# Altium integrated library Integrated_Library_Da2016.IntLib: 12 symbols
Pins are listed as number, name and electrical type; pins without a type are passive.

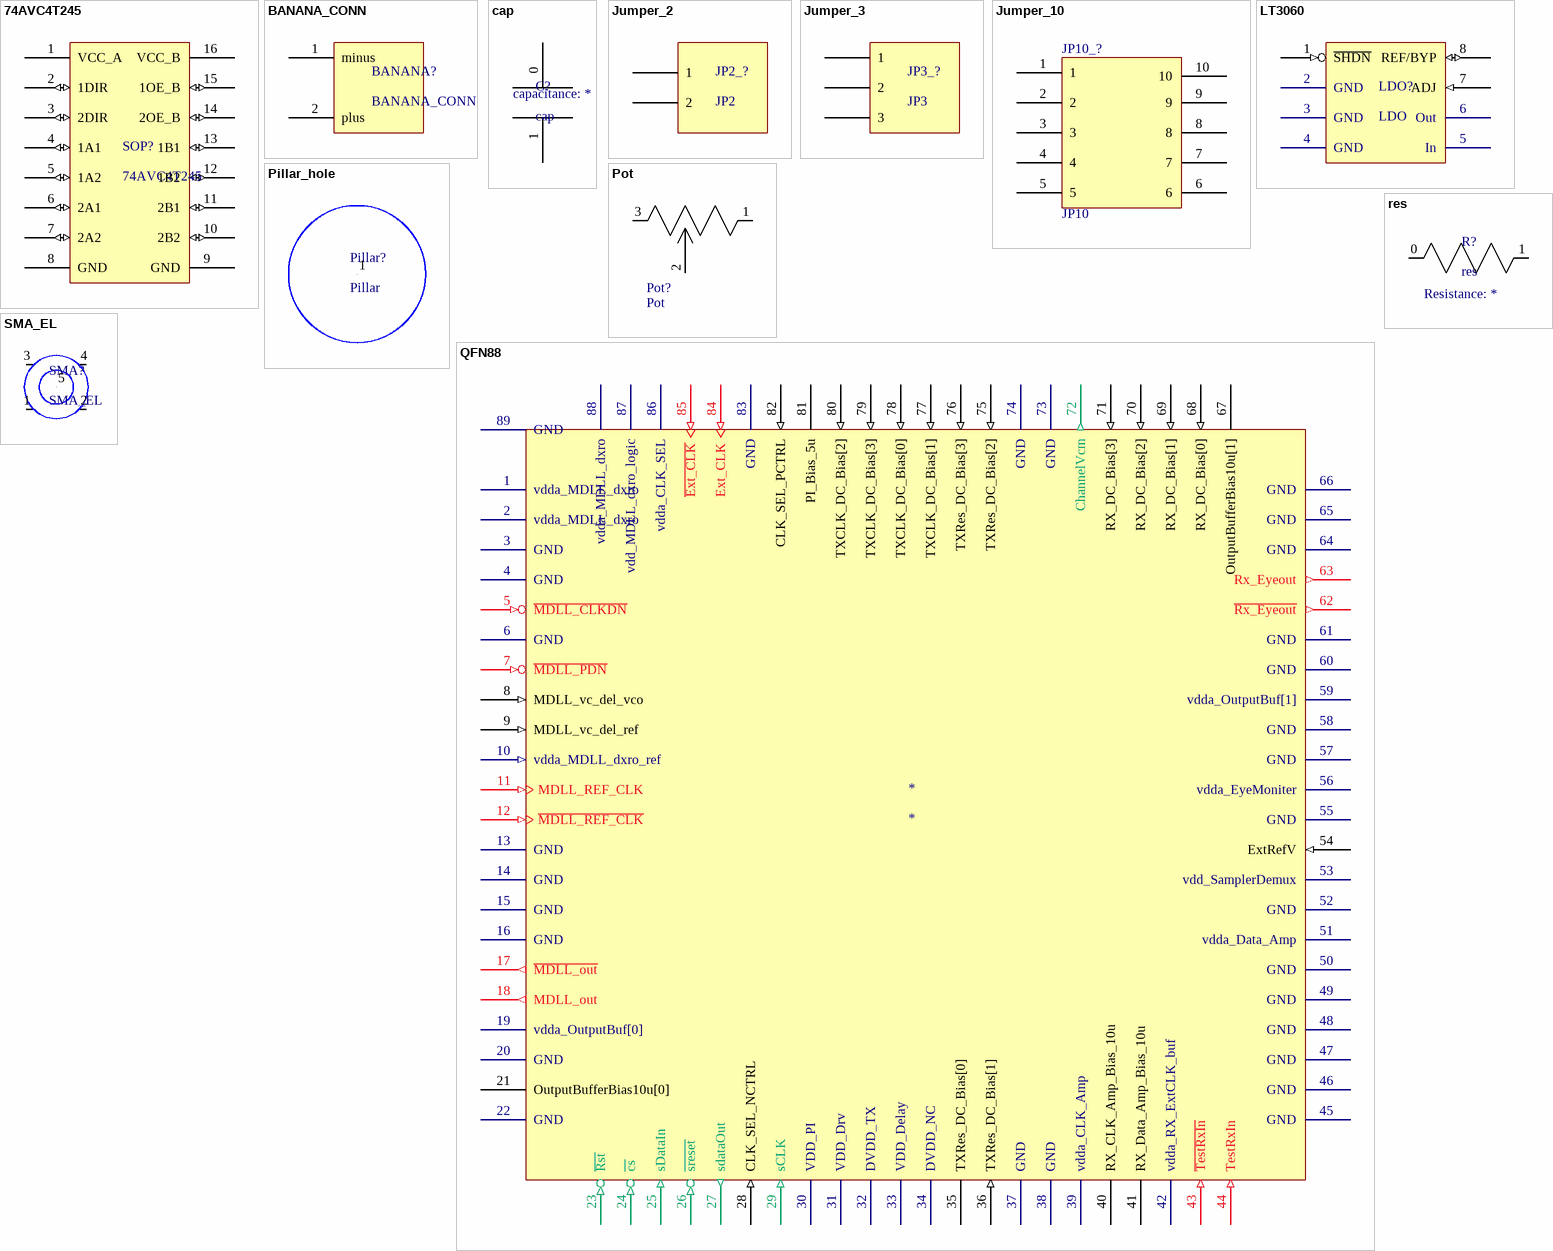
[diagram p0: symbols 74AVC4T245 to SMA_EL]

## 74AVC4T245
designator SOP?
74AVC4T245 Voltage Shifter; Rule: UNIONINDEX{}0[]RULEKIND{}SolderMaskExpansion[]NETSCOPE{}AnyNet[]LAYERKIND{}SameLayer[]NAME{}Schematic Solder Mask Expansion[]EXPANSION{}5mil[]UNIT{}Imperial[]PcbType{}ProtelPcb
footprint 74AVC4T245
pins: 1 VCC_A (power), 2 1DIR (io), 3 2DIR (io), 4 1A1 (io), 5 1A2 (io), 6 2A1 (io), 7 2A2 (io), 8 GND (power), 9 GND (power), 10 2B2 (io), 11 2B1 (io), 12 1B2 (io), 13 1B1 (io), 14 2OE_B (io), 15 1OE_B (io), 16 VCC_B (power)

## BANANA_CONN
designator BANANA?
Rule: UNIONINDEX{}0[]RULEKIND{}SolderMaskExpansion[]NETSCOPE{}AnyNet[]LAYERKIND{}SameLayer[]NAME{}Schematic Solder Mask Expansion[]EXPANSION{}5mil[]UNIT{}Imperial[]PcbType{}ProtelPcb
footprint BANANA_CONN
pins: 1 minus, 2 plus

## cap
designator C?
0603cap; Rule: UNIONINDEX{}0[]RULEKIND{}SolderMaskExpansion[]NETSCOPE{}AnyNet[]LAYERKIND{}SameLayer[]NAME{}Schematic Solder Mask Expansion[]EXPANSION{}5mil[]UNIT{}Imperial[]PcbType{}ProtelPcb; capacitance: *
footprint Capacitor
pins: 0, 1

## Jumper_2
designator JP2_?, comment JP2
Jumper_2; Rule: UNIONINDEX{}0[]RULEKIND{}SolderMaskExpansion[]NETSCOPE{}AnyNet[]LAYERKIND{}SameLayer[]NAME{}Schematic Solder Mask Expansion[]EXPANSION{}5mil[]UNIT{}Imperial[]PcbType{}ProtelPcb
footprint JUMPER2
pins: 1, 2

## Jumper_3
designator JP3_?, comment JP3
Jumper_3p; Rule: UNIONINDEX{}0[]RULEKIND{}SolderMaskExpansion[]NETSCOPE{}AnyNet[]LAYERKIND{}SameLayer[]NAME{}Schematic Solder Mask Expansion[]EXPANSION{}5mil[]UNIT{}Imperial[]PcbType{}ProtelPcb
footprint JUMPER3
pins: 1, 2, 3

## Jumper_10
designator JP10_?, comment JP10
Jumper_10p; Rule: UNIONINDEX{}0[]RULEKIND{}SolderMaskExpansion[]NETSCOPE{}AnyNet[]LAYERKIND{}SameLayer[]NAME{}Schematic Solder Mask Expansion[]EXPANSION{}5mil[]UNIT{}Imperial[]PcbType{}ProtelPcb
footprint JUMPER10
pins: 1, 2, 3, 4, 5, 6, 7, 8, 9, 10

## LT3060
designator LDO?, comment LDO
LT3060 LDO; Rule: UNIONINDEX{}0[]RULEKIND{}SolderMaskExpansion[]NETSCOPE{}AnyNet[]LAYERKIND{}SameLayer[]NAME{}Schematic Solder Mask Expansion[]EXPANSION{}5mil[]UNIT{}Imperial[]PcbType{}ProtelPcb
footprint LT3060
pins: 1 ~{SHDN} (in), 2 GND (power), 3 GND (power), 4 GND (power), 5 In (power), 6 Out (power), 7 ADJ (in), 8 REF/BYP (io)

## Pillar_hole
designator Pillar?, comment Pillar
footprint Pillar_hole
pins: 1

## Pot
designator Pot?
Variable Resistor; Rule: UNIONINDEX{}0[]RULEKIND{}SolderMaskExpansion[]NETSCOPE{}AnyNet[]LAYERKIND{}SameLayer[]NAME{}Schematic Solder Mask Expansion[]EXPANSION{}5mil[]UNIT{}Imperial[]PcbType{}ProtelPcb; Resistance: *
footprint Pot
pins: 1, 2, 3

## QFN88
designator *
QFN88 IC Package
footprint QFN88
pins: 1 vdda_MDLL_dxro (power), 2 vdda_MDLL_dxro (power), 3 GND (power), 4 GND (power), 5 ~{MDLL_CLKDN} (in), 6 GND (power), 7 ~{MDLL_PDN} (in), 8 MDLL_vc_del_vco (in), 9 MDLL_vc_del_ref (in), 10 vdda_MDLL_dxro_ref (in), 11 MDLL_REF_CLK (in), 12 ~{MDLL_REF_CLK} (in), 13 GND (power), 14 GND (power), 15 GND (power), 16 GND (power), 17 ~{MDLL_out} (out), 18 MDLL_out (out), 19 vdda_OutputBuf[0] (power), 20 GND (power), 21 OutputBufferBias10u[0] (power), 22 GND (power), 23 ~{Rst} (in), 24 ~{cs} (in), 25 sDataIn (in), 26 ~{sreset} (in), 27 sdataOut (out), 28 CLK_SEL_NCTRL (in), 29 sCLK (in), 30 VDD_PI (power), 31 VDD_Drv (power), 32 DVDD_TX (power), 33 VDD_Delay (power), 34 DVDD_NC (power), 35 TXRes_DC_Bias[0], 36 TXRes_DC_Bias[1] (in), 37 GND (power), 38 GND (power), 39 vdda_CLK_Amp (power), 40 RX_CLK_Amp_Bias_10u, 41 RX_Data_Amp_Bias_10u (power), 42 vdda_RX_ExtCLK_buf (power), 43 ~{TestRxIn} (in), 44 TestRxIn (in), 45 GND (power), 46 GND (power), 47 GND (power), 48 GND (power), 49 GND, 50 GND (power), 51 vdda_Data_Amp (power), 52 GND (power), 53 vdd_SamplerDemux (power), 54 ExtRefV (in), 55 GND (power), 56 vdda_EyeMoniter (power), 57 GND (power), 58 GND (power), 59 vdda_OutputBuf[1] (power), 60 GND (power), 61 GND (power), 62 ~{Rx_Eyeout} (out), 63 Rx_Eyeout (out), 64 GND (power), 65 GND (power), 66 GND (power), 67 OutputBufferBias10u[1] (power), 68 RX_DC_Bias[0] (in), 69 RX_DC_Bias[1] (in), 70 RX_DC_Bias[2] (in), 71 RX_DC_Bias[3] (in), 72 ChannelVcm (out), 73 GND (power), 74 GND (power), 75 TXRes_DC_Bias[2] (in), 76 TXRes_DC_Bias[3] (in), 77 TXCLK_DC_Bias[1] (in), 78 TXCLK_DC_Bias[0] (in), 79 TXCLK_DC_Bias[3] (in), 80 TXCLK_DC_Bias[2] (in), 81 PI_Bias_5u (power), 82 CLK_SEL_PCTRL (in), 83 GND, 84 Ext_CLK (in), 85 ~{Ext_CLK} (in), 86 vdda_CLK_SEL (power), 87 vdd_MDLL_dxro_logic (power), 88 vdda_MDLL_dxro (power), 89 GND (power)

## res
designator R?
0603Res; Rule: UNIONINDEX{}0[]RULEKIND{}SolderMaskExpansion[]NETSCOPE{}AnyNet[]LAYERKIND{}SameLayer[]NAME{}Schematic Solder Mask Expansion[]EXPANSION{}5mil[]UNIT{}Imperial[]PcbType{}ProtelPcb; Resistance: *
footprint Resistor
pins: 0, 1

## SMA_EL
designator SMA?
Rule: UNIONINDEX{}0[]RULEKIND{}SolderMaskExpansion[]NETSCOPE{}AnyNet[]LAYERKIND{}SameLayer[]NAME{}Schematic Solder Mask Expansion[]EXPANSION{}5mil[]UNIT{}Imperial[]PcbType{}ProtelPcb
footprint SMA_EL
pins: 1, 2, 3, 4, 5